# Altium footprint library FP-PJ-025-MFG.PcbLib: 1 footprints
Each footprint in its own frame and in the unit in brackets; x right, y up, seen from the top. Pads: shape width x height; smd on the part's side, far side on the other; paste and mask are expansions set on the pad; w line width, h text height; cw(c..) or ccw(c..) is an arc to the next point about the centre after c.
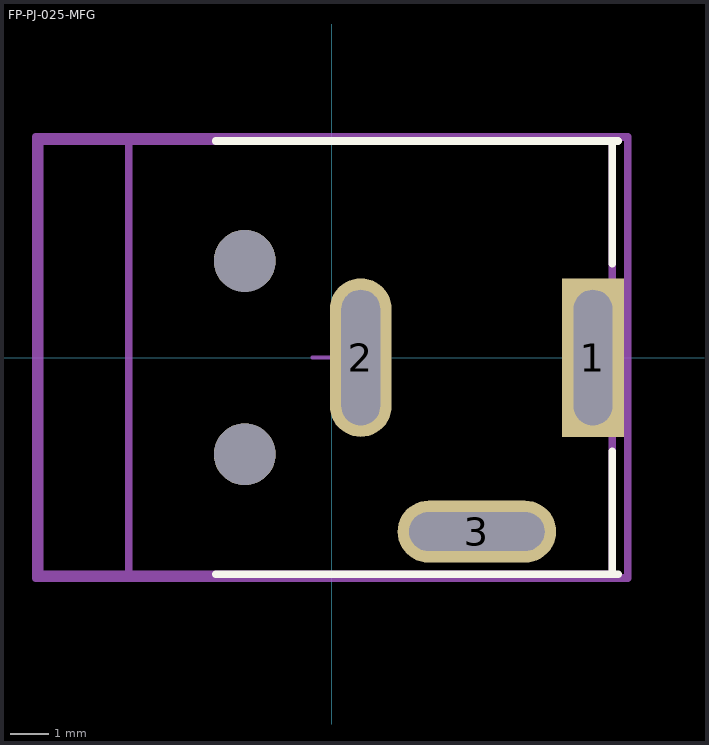
[diagram p0: the footprint, top view; thin cyan lines are the x and y axes]

## FP-PJ-025-MFG [mm]
pads (5):
  rect 1.6x4.1 hole 3.5 slot 1 at 0 deg paste-2539.97 mask+0: 1(6.75,0)
  rrect100% 1.6x4.1 hole 3.5 slot 1 at 0 deg paste-2539.97 mask+0: 2(0.75,0)
  rrect100% 4.1x1.6 hole 1 slot 3.5 at 0 deg paste-2539.97 mask+0: 3(3.75,-4.5)
  round 1.6 hole 1.6 unplated paste-2539.97 mask+0: ""(-2.25,-2.5) ""(-2.25,2.5)
Top Overlay:
  lines w0.2: -3,-5.6 7.4,-5.6 ; -3,5.6 7.4,5.6 ; 6.175,-5.6 7.25,-5.6 7.25,-2.425 ; 7.25,2.425 7.25,5.6
Top Assembly:
  lines w0.2: -7.65,-5.7 -7.65,5.7 7.65,5.7 7.65,-5.7 -7.65,-5.7
  text ".Designator" at 0,0.188 h1
Top 3D Body:
  lines w0.2: -5.25,-5.7 -5.25,5.7 ; -7.55,-5.6 -7.55,5.6 7.25,5.6 7.25,-5.6 -7.55,-5.6
Top Courtyard:
  lines w0.2: -7.65,-5.7 -7.65,5.7 7.65,5.7 7.65,-5.7 -7.65,-5.7
Top Component Center:
  lines w0.1: -0.5,0 0.5,0 ; 0,-0.5 0,0.5
3D body "Conn_CUI_Inc_PJ-025_eec.STEP": height 0.25, standoff 0, extent -7.65,-5.7 7.65,5.7